# EAGLE library part HONDA_SD-CARD_CONNECTOR (library Traficon)
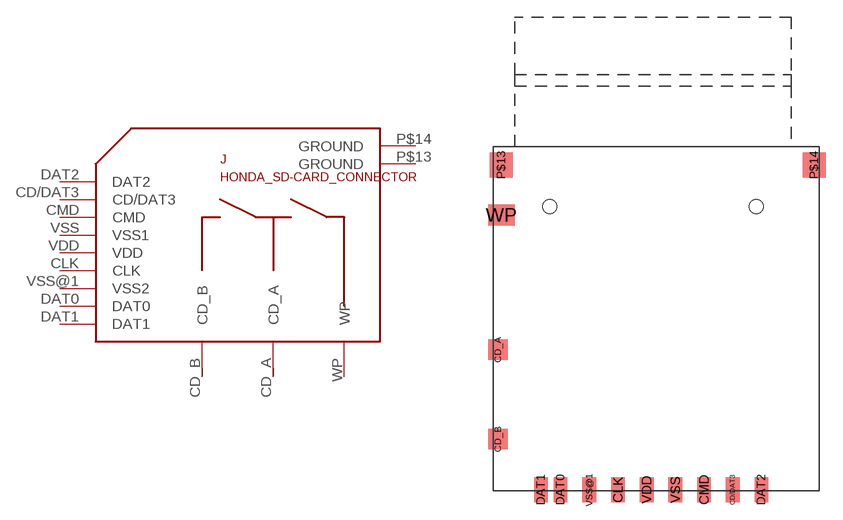
[diagram p173: symbol with the pads of HONDA_SD-DR9LFYGA1; footprint HONDA_SD-DR9LFYGA1]

Designator prefix J

## HONDA_SD-CARD_CONNECTOR  [HONDA_SD-DR9LFYGA1]
CD/DAT3  CD/DAT3
CD_A  CD_A
CD_B  CD_B
CLK  CLK
CMD  CMD
DAT0  DAT0
DAT1  DAT1
DAT2  DAT2
P$13  GROUND
P$14  GROUND
VDD  VDD
VSS  VSS1
VSS@1  VSS2
WP  WP

## Footprint HONDA_SD-DR9LFYGA1 (pad centres in mm)
smd 1.2 x 2.2: CD/DAT3 6.95,-29.9; CLK -3.05,-29.9; CMD 4.45,-29.9; DAT0 -8.05,-29.9; DAT1 -9.75,-29.9; DAT2 9.45,-29.9; VDD -0.55,-29.9; VSS 1.95,-29.9; VSS@1 -5.55,-29.9
smd 1.7 x 1.8: CD_A -13.5,-17.7; CD_B -13.5,-25.5
smd 2 x 2.2: P$13 -13.2,-1.6; P$14 14.05,-1.6
smd 2.3 x 1.8: WP -13.2,-5.95
hole 1.2 at -9,-5.2
hole 1.2 at 9,-5.2